# EAGLE library part PIC16F721 (library FSAE Electric (Alexander Ray's conflicted copy 2016-04-02))
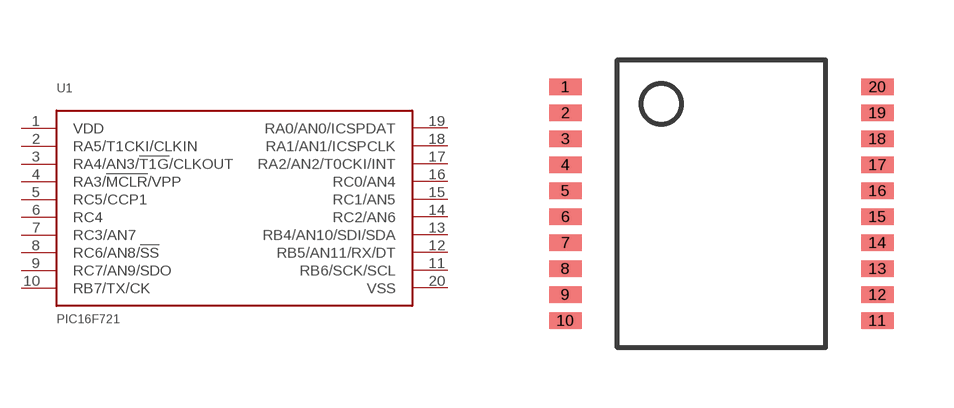
[diagram p0: symbol with the pads of SSOP-20; footprint SSOP-20]

Designator prefix U1

## PIC16F721 (PARTNO: PIC16F721-I/SS)  [SSOP-20]
1  VDD
2  RA5/T1CKI/CLKIN
3  RA4/AN3/!T1G!/CLKOUT
4  RA3/!MCLR!/VPP
5  RC5/CCP1
6  RC4
7  RC3/AN7
8  RC6/AN8/!SS!
9  RC7/AN9/SDO
10  RB7/TX/CK
11  RB6/SCK/SCL
12  RB5/AN11/RX/DT
13  RB4/AN10/SDI/SDA
14  RC2/AN6
15  RC1/AN5
16  RC0/AN4
17  RA2/AN2/T0CKI/INT
18  RA1/AN1/ICSPCLK
19  RA0/AN0/ICSPDAT
20  VSS

## Footprint SSOP-20 (pad centres in mm)
smd 0.813 x 0.406: 1 -3.9,2.925; 2 -3.9,2.275; 3 -3.9,1.625; 4 -3.9,0.975; 5 -3.9,0.325; 6 -3.9,-0.325; 7 -3.9,-0.975; 8 -3.9,-1.625; 9 -3.9,-2.275; 10 -3.9,-2.925; 11 3.9,-2.925; 12 3.9,-2.275; 13 3.9,-1.625; 14 3.9,-0.975; 15 3.9,-0.325; 16 3.9,0.325; 17 3.9,0.975; 18 3.9,1.625; 19 3.9,2.275; 20 3.9,2.925